# Altium footprint library DM1098LUXD-LITE.PcbLib: 4 footprints
Each footprint in its own frame and in the unit in brackets; x right, y up, seen from the top. Pads: shape width x height; smd on the part's side, far side on the other; paste and mask are expansions set on the pad; w line width, h text height; cw(c..) or ccw(c..) is an arc to the next point about the centre after c.
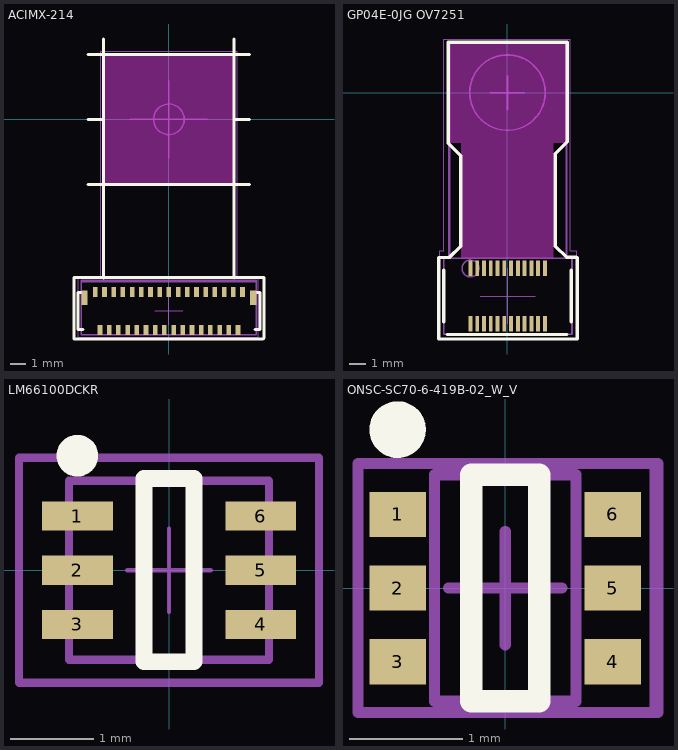
[diagram p0: the footprints below, top view; thin cyan lines are the x and y axes]

## ACIMX-214 [mm] "connector: FH26W-33S-0.3SHW"
pads (35):
  rect 0.4x0.95 smd mask+0.05: 0(-5.5,-11.625) 0(5.5,-11.625)
  rect 0.3x0.65 smd mask+0.05: 1(4.8,-11.275) 2(4.507,-13.725) 3(4.2,-11.275) 4(3.907,-13.725) 5(3.6,-11.275) 6(3.307,-13.725) 7(3,-11.275) 8(2.707,-13.725) 9(2.4,-11.275) 10(2.107,-13.725) 11(1.8,-11.275) 12(1.507,-13.725) 13(1.2,-11.275) 14(0.907,-13.725) 15(0.6,-11.275) 16(0.307,-13.725) 17(0,-11.275) 18(-0.293,-13.725) 19(-0.6,-11.275) 20(-0.893,-13.725) 21(-1.2,-11.275) 22(-1.493,-13.725) 23(-1.8,-11.275) 24(-2.093,-13.725) 25(-2.4,-11.275) 26(-2.693,-13.725) 27(-3,-11.275) 28(-3.293,-13.725) 29(-3.6,-11.275) 30(-3.893,-13.725) 31(-4.2,-11.275) 32(-4.493,-13.725) 33(-4.8,-11.275)
Top Layer keep-out:
  region: -4.254,4.25 4.25,4.25 4.25,-4.25 -4.254,-4.25
Top Overlay:
  lines w0.2: -5.587,-13.7 -5.938,-13.7 -5.938,-11.3 -5.587,-11.3 ; -5.262,-4.266 -4.262,-4.266 ; -5.262,-0.016 -4.262,-0.016 ; -5.262,4.234 -4.262,4.234 -4.262,5.234 ; -4.249,-10.338 -4.25,-4.262 -4.25,4.237 ; -4.191,-4.262 4.191,-4.262 ; -4.191,4.237 4.191,4.237 ; 4.238,-4.266 5.238,-4.266 ; 4.238,-0.016 5.238,-0.016 ; 4.238,5.234 4.238,4.234 5.238,4.234 ; 4.25,-10.325 4.249,-4.25 ; 4.25,-4.262 4.25,4.237 ; 5.602,-13.7 5.952,-13.7 5.952,-11.3 5.602,-11.3 ; 6.175,-10.325 -6.188,-10.325 -6.188,-14.325 6.15,-14.325 6.202,-14.273 6.202,-10.325
Top Assembly:
  circle w0.1: c0,0 r1
  lines w0.1: -4.25,-10.525 -4.25,4.262 4.261,4.262 4.263,4.263 4.263,-10.5 2.75,-10.5 ; -4.25,-4.25 4.263,-4.25 ; -2.51,0 2.51,0 ; 0,-2.5 0,2.5 ; 2.51,0 2.51,0 ; 2.75,-10.5 5.687,-10.5 5.687,-14.037 -5.7,-14.037 -5.7,-10.5 -2.75,-10.5 2.75,-10.5
  text "'.Designator'" at 0,-12.494 h1
Top Courtyard:
  lines w0.05: -4.447,4.426 4.443,4.426 ; -4.445,-10.325 -4.445,4.425 ; -0.91,-12.494 0,-12.494 ; -0.91,0 0,0 ; 0,-13.404 0,-12.494 ; 0,-11.584 0,-12.494 ; 0,-0.91 0,0 ; 0,0.91 0,0 ; 0.91,-12.494 0,-12.494 ; 0.91,0 0,0 ; 4.445,-10.325 4.445,3.245 4.445,4.425 ; -5.925,-14.225 -5.925,-10.325 5.842,-10.325 5.842,-14.225 -5.925,-14.225
Top Component Outline (Mech31):
  lines w0.1: -4.254,4.25 4.261,4.238 4.249,-4.25 -4.25,-4.25 ; -4.254,-4.234 -4.242,4.254 ; -4.25,-10.571 -4.25,-4.237 ; 4.249,-10.571 4.249,-4.237 ; -5.7,-14.037 5.7,-14.037 5.7,-10.587 -5.7,-10.587 -5.7,-14.037
3D body: height 5.55, standoff 0.25, extent -4.254,-4.234 4.249,4.25
3D body "FH26-33S-0.step": height 1.01, standoff 0.01, extent -5.7,-14.075 5.7,-10.575
3D body: height 0.65, standoff 0.45, extent -5.1,-13.023 5.1,-8.625
3D body: height 0.65, standoff 0.45, extent -4.253,-13.023 4.25,-4.237
3D body: height 5.6, standoff 5.55, extent -5.1,-0.007 5.1,0.006
3D body: height 5.6, standoff 5.55, extent -0.006,-5.1 0.007,5.1

## GP04E-0JG OV7251 [mm]
pads (24):
  rect 0.23x0.92 smd mask+0.05: 1(-2.187,-10.41) 2(-1.787,-10.41) 3(-1.387,-10.41) 4(-0.987,-10.41) 5(-0.587,-10.41) 6(-0.187,-10.41) 7(0.213,-10.41) 8(0.613,-10.41) 9(1.013,-10.41) 10(1.413,-10.41) 11(1.813,-10.41) 12(2.213,-10.41) 13(2.213,-13.69) 14(1.813,-13.69) 15(1.413,-13.69) 16(1.013,-13.69) 17(0.613,-13.69) 18(0.213,-13.69) 19(-0.187,-13.69) 20(-0.587,-13.69) 21(-0.987,-13.69) 22(-1.387,-13.69) 23(-1.787,-13.69) 24(-2.187,-13.69)
Top Layer keep-out:
  rectangle: -3.575,-2.988 3.5,2.95
  rectangle: -2.737,-9.8 2.738,2
Top Overlay:
  lines w0.2: -3.775,-13.573 -3.775,-10.513 ; -3.562,-14.325 3.5,-14.325 ; 3.788,-13.585 3.788,-10.525 ; 4.125,-14.589 -4.062,-14.575 -4.062,-9.763 -3.437,-9.763 -2.775,-9.1 -2.775,-3.738 -3.512,-3 -3.512,2.975 3.55,2.975 3.55,-2.913 2.838,-3.625 2.838,-9.088 3.5,-9.75 4.088,-9.75 4.125,-9.787 4.125,-14.538
Top Assembly:
  circle w0.1: c0,0 r2.236
  circle w0.1: c-2.187,-10.41 r0.5
  lines w0.1: -1,0 1,0 ; 0,-1 0,1 ; -3.775,-9.8 -3.775,-14.3 3.825,-14.3 3.825,-9.8 ; -3.775,-9.8 -3.475,-9.8 -3.475,2.937 3.5,2.937 3.5,-9.8 3.825,-9.8 ; -3.775,-9.8 3.825,-9.8
  text "'.Designator'" at 0.013,-12.05 h1
Top Courtyard:
  circle w0.1: c0,0 r2.236
  lines w0.05: -1.627,-12.05 0.013,-12.05 ; -1,0 1,0 ; 0,-1 0,1 ; 0.013,-13.689 0.013,-12.05 ; 0.013,-10.411 0.013,-12.05 ; 1.652,-12.05 0.013,-12.05 ; -4,-14.55 4.088,-14.55 4.088,-9.35 3.725,-9.35 3.725,3.175 -3.775,3.175 -3.775,-9.35 -4,-9.35 -4,-14.55
Top Component Outline (Mech31):
  lines w0.1: -3.775,-14.3 3.813,-14.3 3.813,-9.8 3.5,-9.8 3.5,2.925 -3.426,2.925 -3.426,-9.8 -3.775,-9.8 -3.775,-14.3
3D body: height 3.17, standoff 3.16, extent -5.1,-0.007 5.1,0.006
3D body: height 3.17, standoff 3.16, extent -0.006,-5.1 0.007,5.1
3D body: height 2.5, standoff 0, extent -2.243,-2.238 2.243,2.237
3D body: height 1.65, standoff 0, extent -3.5,-2.963 3.5,2.95
3D body: height 3.16, standoff 0, extent -2,-2 2,2
3D body: height 0.94, standoff 0.84, extent -3.787,-14.3 3.788,-2.962
3D body: height 0.94, standoff 0.84, extent -3.762,-14.3 3.813,-2.962
3D body "ACON_BBR43-24KB533_revB_dwg_no_C-BBR43-04-01.STEP": height 0.92, standoff 0, extent -3.68,-13.97 3.73,-10.23

## LM66100DCKR [mm] "SOT23, 6-Leads, Body 2.00x2.10mm, Pitch 0.65mm, IPC Medium Density"
height 1.1
pads (6):
  rect 0.85x0.35 smd: 1(-1.1,0.65) 2(-1.1,0) 3(-1.1,-0.65) 4(1.1,-0.65) 5(1.1,0) 6(1.1,0.65)
Top Overlay:
  circle w0.25: c-1.1,1.375 r0.125
  lines w0.2: -0.3,-1.1 -0.3,1.1 0.3,1.1 0.3,-1.1 -0.3,-1.1
Top Assembly:
  lines w0.1: -1.8,-1.35 1.8,-1.35 1.8,1.35 -1.8,1.35 -1.8,-1.35
  text "'.Designator'" at 0,0.188 h1
Top Courtyard:
  lines w0.05: -0.5,0 0.5,0 ; 0,-0.5 0,0.5 ; -1.8,-1.35 1.8,-1.35 1.8,1.35 -1.8,1.35 -1.8,-1.35
Top Component Outline (Mech31):
  lines w0.1: -1.2,-1.075 1.2,-1.075 1.2,1.075 -1.2,1.075 -1.2,-1.075
3D body "SOT65P210X110-6N.step": height 1.1, standoff 0, extent -1.2,-1.075 1.2,1.075

## ONSC-SC70-6-419B-02_W_V [mm] "SOT23, 6-Leads, Body 2x1.25mm, Pitch 0.65mm"
height 1.1
pads (6):
  rect 0.5x0.4 smd: 1(-0.95,0.65) 2(-0.95,0) 3(-0.95,-0.65) 4(0.95,-0.65) 5(0.95,0) 6(0.95,0.65)
Top Overlay:
  circle w0.25: c-0.95,1.4 r0.125
  lines w0.2: -0.3,-1 0.3,-1 0.3,1 -0.3,1 -0.3,-1
Top Assembly:
  lines w0.1: -1.3,-1.1 -1.3,1.1 1.35,1.1 1.35,-1.1 -1.3,-1.1
  text "'.Designator'" at 0,0.188 h1
Top Courtyard:
  lines w0.05: -1.3,-1.1 -1.3,1.1 1.3,1.1 1.3,-1.1 -1.3,-1.1
  lines w0.1: -0.5,0 0.5,0 ; 0,-0.5 0,0.5
Top Component Outline (Mech31):
  lines w0.1: -0.625,-1 0.625,-1 0.625,1 -0.625,1 -0.625,-1
3D body "User Library-SC70-6.step": height 1.08, standoff 0.13, extent -1.05,-1 1.05,1